# EAGLE library part ADIS16355AMLZ (library ADIS16355AMLZ)
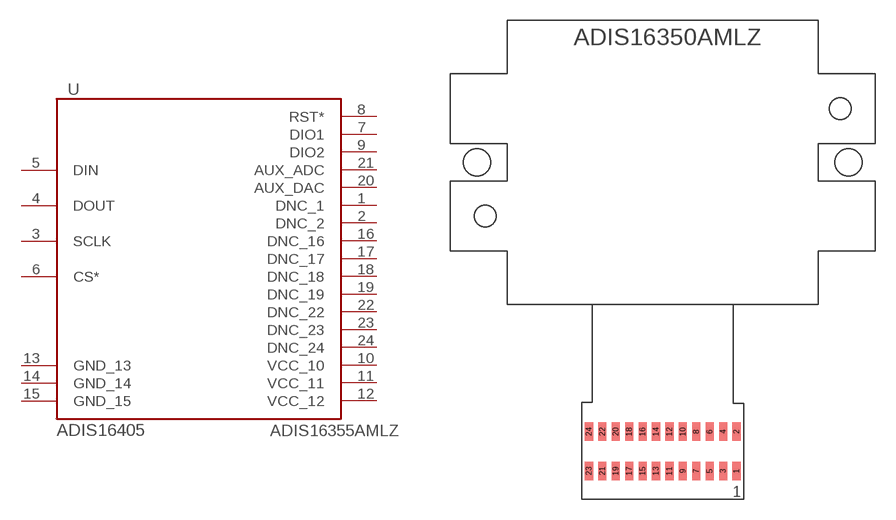
[diagram p0: symbol with the pads of ADIS16355AMLZ; footprint ADIS16355AMLZ]

Designator prefix -

## ADIS16355AMLZ  [ADIS16355AMLZ]
1  DNC_1  nc
2  DNC_2  nc
3  SCLK  in
4  DOUT  out
5  DIN  in
6  CS*  in
7  DIO1
8  RST*  in
9  DIO2
10  VCC_10  pwr
11  VCC_11  pwr
12  VCC_12  pwr
13  GND_13  pwr
14  GND_14  pwr
15  GND_15  pwr
16  DNC_16  nc
17  DNC_17  nc
18  DNC_18  nc
19  DNC_19  nc
20  AUX_DAC  out
21  AUX_ADC  in
22  DNC_22  nc
23  DNC_23  nc
24  DNC_24  nc

## Footprint ADIS16355AMLZ (pad centres in mm)
smd 0.61 x 1.37: 1 5.5,-23.03; 2 5.5,-20.1; 3 4.5,-23.03; 4 4.5,-20.1; 5 3.5,-23.03; 6 3.5,-20.1; 7 2.5,-23.03; 8 2.5,-20.1; 9 1.5,-23.03; 10 1.5,-20.1; 11 0.5,-23.03; 12 0.5,-20.1; 13 -0.5,-23.03; 14 -0.5,-20.1; 15 -1.5,-23.03; 16 -1.5,-20.1; 17 -2.5,-23.03; 18 -2.5,-20.1; 19 -3.5,-23.03; 20 -3.5,-20.1; 21 -4.5,-23.03; 22 -4.5,-20.1; 23 -5.5,-23.03; 24 -5.5,-20.1